# Altium footprint library RPI_CM4.PcbLib: 1 footprints
Each footprint in its own frame and in the unit in brackets; x right, y up, seen from the top. Pads: shape width x height; smd on the part's side, far side on the other; paste and mask are expansions set on the pad; w line width, h text height; cw(c..) or ccw(c..) is an arc to the next point about the centre after c.
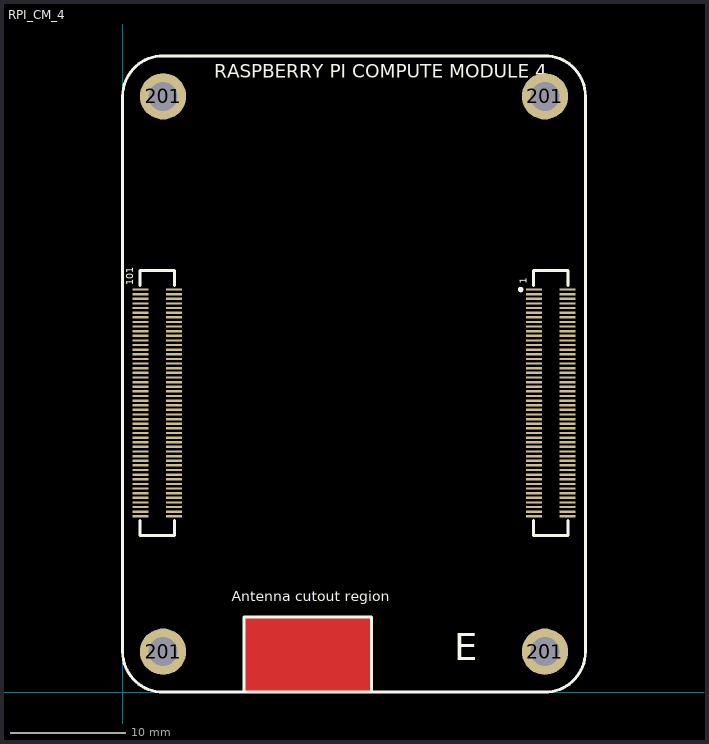
[diagram p0: the footprint, top view; thin cyan lines are the x and y axes]

## RPI_CM_4 [mm] "Raspberry PI Compute Module 4"
pads (204):
  rect 1.4x0.2 smd: 1(35.55,34.8) 2(38.45,34.8) 3(35.55,34.4) 4(38.45,34.4) 5(35.55,34) 6(38.45,34) 7(35.55,33.6) 8(38.45,33.6) 9(35.55,33.2) 10(38.45,33.2) 11(35.55,32.8) 12(38.45,32.8) 13(35.55,32.4) 14(38.45,32.4) 15(35.55,32) 16(38.45,32) 17(35.55,31.6) 18(38.45,31.6) 19(35.55,31.2) 20(38.45,31.2) 21(35.55,30.8) 22(38.45,30.8) 23(35.55,30.4) 24(38.45,30.4) 25(35.55,30) 26(38.45,30) 27(35.55,29.6) 28(38.45,29.6) 29(35.55,29.2) 30(38.45,29.2) 31(35.55,28.8) 32(38.45,28.8) 33(35.55,28.4) 34(38.45,28.4) 35(35.55,28) 36(38.45,28) 37(35.55,27.6) 38(38.45,27.6) 39(35.55,27.2) 40(38.45,27.2) 41(35.55,26.8) 42(38.45,26.8) 43(35.55,26.4) 44(38.45,26.4) 45(35.55,26) 46(38.45,26) 47(35.55,25.6) 48(38.45,25.6) 49(35.55,25.2) 50(38.45,25.2) 51(35.55,24.8) 52(38.45,24.8) 53(35.55,24.4) 54(38.45,24.4) 55(35.55,24) 56(38.45,24) 57(35.55,23.6) 58(38.45,23.6) 59(35.55,23.2) 60(38.45,23.2) 61(35.55,22.8) 62(38.45,22.8) 63(35.55,22.4) 64(38.45,22.4) 65(35.55,22) 66(38.45,22) 67(35.55,21.6) 68(38.45,21.6) 69(35.55,21.2) 70(38.45,21.2) 71(35.55,20.8) 72(38.45,20.8) 73(35.55,20.4) 74(38.45,20.4) 75(35.55,20) 76(38.45,20) 77(35.55,19.6) 78(38.45,19.6) 79(35.55,19.2) 80(38.45,19.2) 81(35.55,18.8) 82(38.45,18.8) 83(35.55,18.4) 84(38.45,18.4) 85(35.55,18) 86(38.45,18) 87(35.55,17.6) 88(38.45,17.6) 89(35.55,17.2) 90(38.45,17.2) 91(35.55,16.8) 92(38.45,16.8) 93(35.55,16.4) 94(38.45,16.4) 95(35.55,16) 96(38.45,16) 97(35.55,15.6) 98(38.45,15.6) 99(35.55,15.2) 100(38.45,15.2) 101(1.55,34.8) 102(4.45,34.8) 103(1.55,34.4) 104(4.45,34.4) 105(1.55,34) 106(4.45,34) 107(1.55,33.6) 108(4.45,33.6) 109(1.55,33.2) 110(4.45,33.2) 111(1.55,32.8) 112(4.45,32.8) 113(1.55,32.4) 114(4.45,32.4) 115(1.55,32) 116(4.45,32) 117(1.55,31.6) 118(4.45,31.6) 119(1.55,31.2) 120(4.45,31.2) 121(1.55,30.8) 122(4.45,30.8) 123(1.55,30.4) 124(4.45,30.4) 125(1.55,30) 126(4.45,30) 127(1.55,29.6) 128(4.45,29.6) 129(1.55,29.2) 130(4.45,29.2) 131(1.55,28.8) 132(4.45,28.8) 133(1.55,28.4) 134(4.45,28.4) 135(1.55,28) 136(4.45,28) 137(1.55,27.6) 138(4.45,27.6) 139(1.55,27.2) 140(4.45,27.2) 141(1.55,26.8) 142(4.45,26.8) 143(1.55,26.4) 144(4.45,26.4) 145(1.55,26) 146(4.45,26) 147(1.55,25.6) 148(4.45,25.6) 149(1.55,25.2) 150(4.45,25.2) 151(1.55,24.8) 152(4.45,24.8) 153(1.55,24.4) 154(4.45,24.4) 155(1.55,24) 156(4.45,24) 157(1.55,23.6) 158(4.45,23.6) 159(1.55,23.2) 160(4.45,23.2) 161(1.55,22.8) 162(4.45,22.8) 163(1.55,22.4) 164(4.45,22.4) 165(1.55,22) 166(4.45,22) 167(1.55,21.6) 168(4.45,21.6) 169(1.55,21.2) 170(4.45,21.2) 171(1.55,20.8) 172(4.45,20.8) 173(1.55,20.4) 174(4.45,20.4) 175(1.55,20) 176(4.45,20) 177(1.55,19.6) 178(4.45,19.6) 179(1.55,19.2) 180(4.45,19.2) 181(1.55,18.8) 182(4.45,18.8) 183(1.55,18.4) 184(4.45,18.4) 185(1.55,18) 186(4.45,18) 187(1.55,17.6) 188(4.45,17.6) 189(1.55,17.2) 190(4.45,17.2) 191(1.55,16.8) 192(4.45,16.8) 193(1.55,16.4) 194(4.45,16.4) 195(1.55,16) 196(4.45,16) 197(1.55,15.6) 198(4.45,15.6) 199(1.55,15.2) 200(4.45,15.2)
  round 4 hole 2.5: 201(3.5,3.5) 201(3.5,51.5) 201(36.5,3.5) 201(36.5,51.5)
Top Layer:
  pour cut-out: 10.5,6.5 21.5,6.5 21.5,0 10.5,0
  lines w0.05: 35.55,24.8 36.25,24.8 ; 35.55,25.2 36.25,25.2 ; 37.75,24.8 38.45,24.8 ; 37.75,25.2 38.45,25.2
Bottom Layer:
  pour cut-out: 10.5,6.5 10.5,0 10.55,0.05 21.5,0.05 21.5,6.5
Top Overlay:
  circle w0.254: c34.4,34.8 r0.112
  lines w0.254: 1.5,14.85 1.5,13.55 4.5,13.55 4.5,14.85 ; 1.5,35.15 1.5,36.45 4.5,36.45 4.5,35.15 ; 35.5,14.85 35.5,13.55 38.5,13.55 38.5,14.85 ; 35.5,35.15 35.5,36.45 38.5,36.45 38.5,35.15 ; 36.5,0 ccw(c36.5,3.5) 40,3.5 40,51.5 ccw(c36.5,51.5) 36.5,55 3.5,55 ccw(c3.5,51.5) 0,51.5 0,3.5 ccw(c3.5,3.5) 3.5,0 36.55,0 ; 10.5,0 21.5,0 21.5,6.5 10.5,6.5 10.5,0
  text "E" at 28.684,1.962 h4
  text "RASPBERRY PI COMPUTE MODULE 4" at 7.9,52.716 h2
  text "1" at 35.15,35.3 h1
  text "101" at 1.139,35.15 h1
  text "Antenna cutout region" at 9.45,7.537 h1.52
3D body "DF40C-100DS.stp": height 1.45, standoff 0, extent 1.31,13.7 4.69,36.3
3D body "DF40C-100DS.stp": height 1.45, standoff 0, extent 35.31,13.7 38.69,36.3